# Altium footprint library UNCLEAR.PcbLib: 52 footprints (part 4 of 4)
Each footprint in its own frame and in the unit in brackets; x right, y up, seen from the top. Pads: shape width x height; smd on the part's side, far side on the other; paste and mask are expansions set on the pad; w line width, h text height; cw(c..) or ccw(c..) is an arc to the next point about the centre after c.
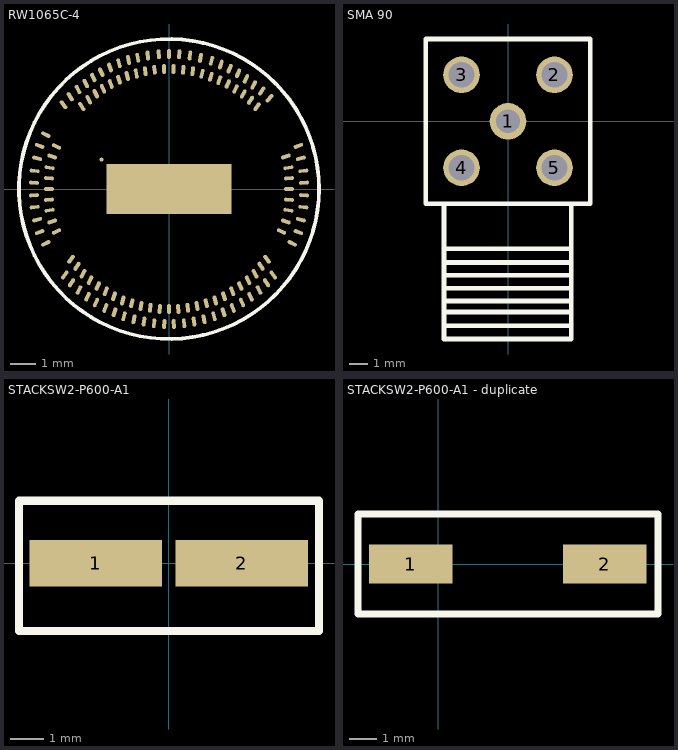
[diagram p3: the footprints below, top view; thin cyan lines are the x and y axes]

## RW1065C-4 [mm]
pads (133):
  oval 0.4x0.16 smd rot 18: ADCR(4.674,1.3) C28(-4.676,-1.3)
  oval 0.4x0.16 smd rot 84: BS0P(0.837,5.34) S43(-0.75,-4.75) S44(-1,-5.3)
  oval 0.4x0.16 smd rot 83: BS1P(0.945,4.71)
  oval 0.4x0.16 smd rot 108: C0(-2.001,4.37) C1(-2.361,4.86) S27(2.2,-4.29) S28(2.18,-4.93)
  oval 0.4x0.16 smd rot 110: C2(-2.331,4.2) S25(2.53,-4.09) S26(2.55,-4.76)
  oval 0.4x0.16 smd rot 113: C3(-2.711,4.67) C4(-2.641,4.01) C5(-3.031,4.46) S23(2.85,-3.88) S24(2.92,-4.54)
  oval 0.4x0.16 smd rot 115: C6(-2.931,3.81) C7(-3.331,4.22) S21(3.16,-3.65) S22(3.26,-4.31)
  oval 0.4x0.16 smd rot 118: C8(-3.211,3.57) C9(-3.641,3.98) S19(3.44,-3.39) S20(3.6,-4.04)
  oval 0.4x0.16 smd rot 123: C10(-3.491,3.3) C11(-3.951,3.69) S17(3.68,-3.09) S18(3.9,-3.75)
  oval 0.4x0.16 smd rot 128: C12(-4.221,3.37) S15(3.92,-2.81)
  oval 0.4x0.16 smd rot 153: C13(-4.926,2.175) S14(4.924,-2.175)
  oval 0.4x0.16 smd rot 155: C14(-4.501,1.7) S13(4.499,-1.7)
  oval 0.4x0.16 smd rot 160: C15(-5.176,1.725) S12(5.174,-1.725)
  oval 0.4x0.16 smd rot 162: C16(-4.676,1.3) S11(4.674,-1.3)
  oval 0.4x0.16 smd rot 165: C17(-5.276,1.225) S10(5.274,-1.225)
  oval 0.4x0.16 smd rot 170: C18(-4.776,0.85) S9(4.774,-0.85)
  oval 0.4x0.16 smd rot 173: C19(-5.376,0.725) S8(5.374,-0.725)
  oval 0.4x0.16 smd rot 175: C20(-4.801,0.425) S7(4.799,-0.425)
  oval 0.4x0.16 smd rot 177: C21(-5.401,0.253) S6(5.399,-0.253)
  oval 0.4x0.16 smd: C22(-4.801,0) S5(4.799,0)
  oval 0.4x0.16 smd rot 3: C23(-5.401,-0.253) S4(5.399,0.253)
  oval 0.4x0.16 smd rot 5: C24(-4.801,-0.425) S3(4.799,0.425)
  oval 0.4x0.16 smd rot 7: C25(-5.376,-0.725) S2(5.374,0.725)
  oval 0.4x0.16 smd rot 10: C26(-4.776,-0.85) S1(4.774,0.85)
  oval 0.4x0.16 smd rot 15: C27(-5.276,-1.225) S0(5.274,1.225)
  oval 0.4x0.16 smd rot 20: C29(-5.176,-1.725) VSS(5.174,1.725)
  oval 0.4x0.16 smd rot 25: C30(-4.501,-1.7)
  oval 0.4x0.16 smd rot 27: C31(-4.926,-2.175)
  oval 0.4x0.16 smd rot 93: CAP1N(-0.411,5.39) S37(0.37,-4.8)
  oval 0.4x0.16 smd rot 92: CAP1P(-0.197,4.8) S38(0.19,-5.4)
  oval 0.4x0.16 smd rot 88: CAP2N(0.179,4.8) S40(-0.19,-5.4)
  oval 0.16x0.4 smd: CAP2P(0,5.397) S39(0,-4.797)
  oval 0.4x0.16 smd rot 95: CAP3P(-0.581,4.77) S36(0.6,-5.37)
  oval 0.4x0.16 smd rot 75: CLS(1.32,4.614) RSTP(1.7,5.13) S48(-1.8,-5.09) S49(-1.85,-4.46)
  oval 0.4x0.16 smd rot 67: CS1BP(2.762,4.629) CS2P(2.35,4.2) E(2.425,4.812) S54(-2.92,-4.54) S55(-2.85,-3.88)
  oval 0.4x0.16 smd rot 50: D0(4.02,3.63)
  oval 0.4x0.16 smd rot 54: D1(3.52,3.29) S62(-4.17,-3.44)
  oval 0.4x0.16 smd rot 56: D2(3.71,3.92)
  oval 0.4x0.16 smd rot 57: D3(3.26,3.55) S60(-3.9,-3.75) S61(-3.68,-3.09)
  oval 0.4x0.16 smd rot 63: D4(3.39,4.163)
  oval 0.4x0.16 smd rot 62: D5(2.97,3.8) S58(-3.6,-4.04) S59(-3.44,-3.39)
  oval 0.4x0.16 smd rot 65: D6(3.078,4.405) D7(2.66,4) S56(-3.26,-4.31) S57(-3.16,-3.65)
  oval 0.4x0.16 smd rot 80: MSP(1.261,5.247) S45(-1.12,-4.68) S46(-1.4,-5.21)
  oval 0.4x0.16 smd rot 70: RS(2.011,4.356) S52(-2.55,-4.76) S53(-2.53,-4.09)
  oval 0.4x0.16 smd rot 72: RW(2.07,4.98) S50(-2.18,-4.93) S51(-2.2,-4.29) VDD(1.67,4.491)
  oval 0.4x0.16 smd rot 126: S16(4.17,-3.44)
  oval 0.4x0.16 smd rot 105: S29(1.85,-4.46) S30(1.8,-5.09) V1(-2.001,5.03) V4(-1.671,4.52)
  oval 0.4x0.16 smd rot 103: S31(1.49,-4.57) V2(-1.621,5.16)
  oval 0.4x0.16 smd rot 100: S32(1.4,-5.21) S33(1.12,-4.68) V3(-1.311,4.62) VRAB(-1.251,5.25)
  oval 0.4x0.16 smd rot 96: S34(1,-5.3) S35(0.75,-4.75)
  oval 0.4x0.16 smd rot 87: S41(-0.37,-4.8) VDD2(0.409,5.39)
  oval 0.4x0.16 smd rot 85: S42(-0.6,-5.37) SHLP(0.568,4.77)
  oval 0.4x0.16 smd rot 77: S47(-1.49,-4.57)
  oval 0.4x0.16 smd rot 52: S63(-3.92,-2.81)
  oval 0.4x0.16 smd rot 97: V0(-0.951,4.71)
  oval 0.4x0.16 smd rot 94: VOUT(-0.851,5.34)
  round 0.152 smd: ""(-2.701,1.175)
  rect 5x2 smd: ""(-0.001,0)
Top Overlay:
  circle w0.15: c-0.001,0 r6
Top Solder:
  circle w6: c0,0 r2.8

## SMA 90 [mm]
pads (5):
  round 2 hole 1.3: 1(0,0)
  round 2 hole 1.4: 2(2.54,2.54) 3(-2.54,2.54) 4(-2.54,-2.54) 5(2.54,-2.54)
Top Overlay:
  lines w0.254: -3.505,-7.718 3.374,-7.718 ; -3.501,-4.531 -3.501,-11.896 3.45,-11.896 3.45,-4.504 ; -3.465,-8.415 3.414,-8.415 ; -3.463,-9.821 3.417,-9.821 ; -3.463,-6.958 3.416,-6.958 ; -3.449,-9.129 3.347,-9.129 ; -3.421,-10.423 3.433,-10.423 ; -3.399,-11.181 3.443,-11.181 ; -4.5,-4.5 -4.5,4.5 4.5,4.5 4.5,-4.5 -4.5,-4.5
3D body "1053378-1.stp": height 10.18, standoff -3.29, extent -3.177,-11.635 3.173,3.569

## STACKSW2-P600-A1 [mm]
pads (2):
  rect 4x1.4 smd: 1(-2.2,0) 2(2.2,0)
Top Overlay:
  lines w0.25: -4.52,-2.04 -4.52,1.89 4.53,1.89 4.53,-2.04 -4.52,-2.04
Top Solder:
  rectangle: -4.4,-0.86 4.41,0.86
3D body "SW3DPS-TACT SMD KWANDA TD-02EB-DEFAULT.STEP": height 4.35, standoff -0.95, extent -4,-1.79 4,1.71

## STACKSW2-P600-A1 - duplicate [mm]
pads (2):
  rect 3x1.4 smd: 1(-1,0) 2(6,0)
Top Overlay:
  lines w0.25: -2.902,-1.8 -2.902,1.8 7.922,1.8 7.922,-1.8 -2.902,-1.8
3D body "SW3dPS-TVBU19.STEP": height 2.5, standoff 0, extent -0.57,-1.911 5.53,1.789